# Altium footprint library varistors.PcbLib: 18 footprints (part 1 of 2)
Each footprint in its own frame and in the unit in brackets; x right, y up, seen from the top. Pads: shape width x height; smd on the part's side, far side on the other; paste and mask are expansions set on the pad; w line width, h text height; cw(c..) or ccw(c..) is an arc to the next point about the centre after c.
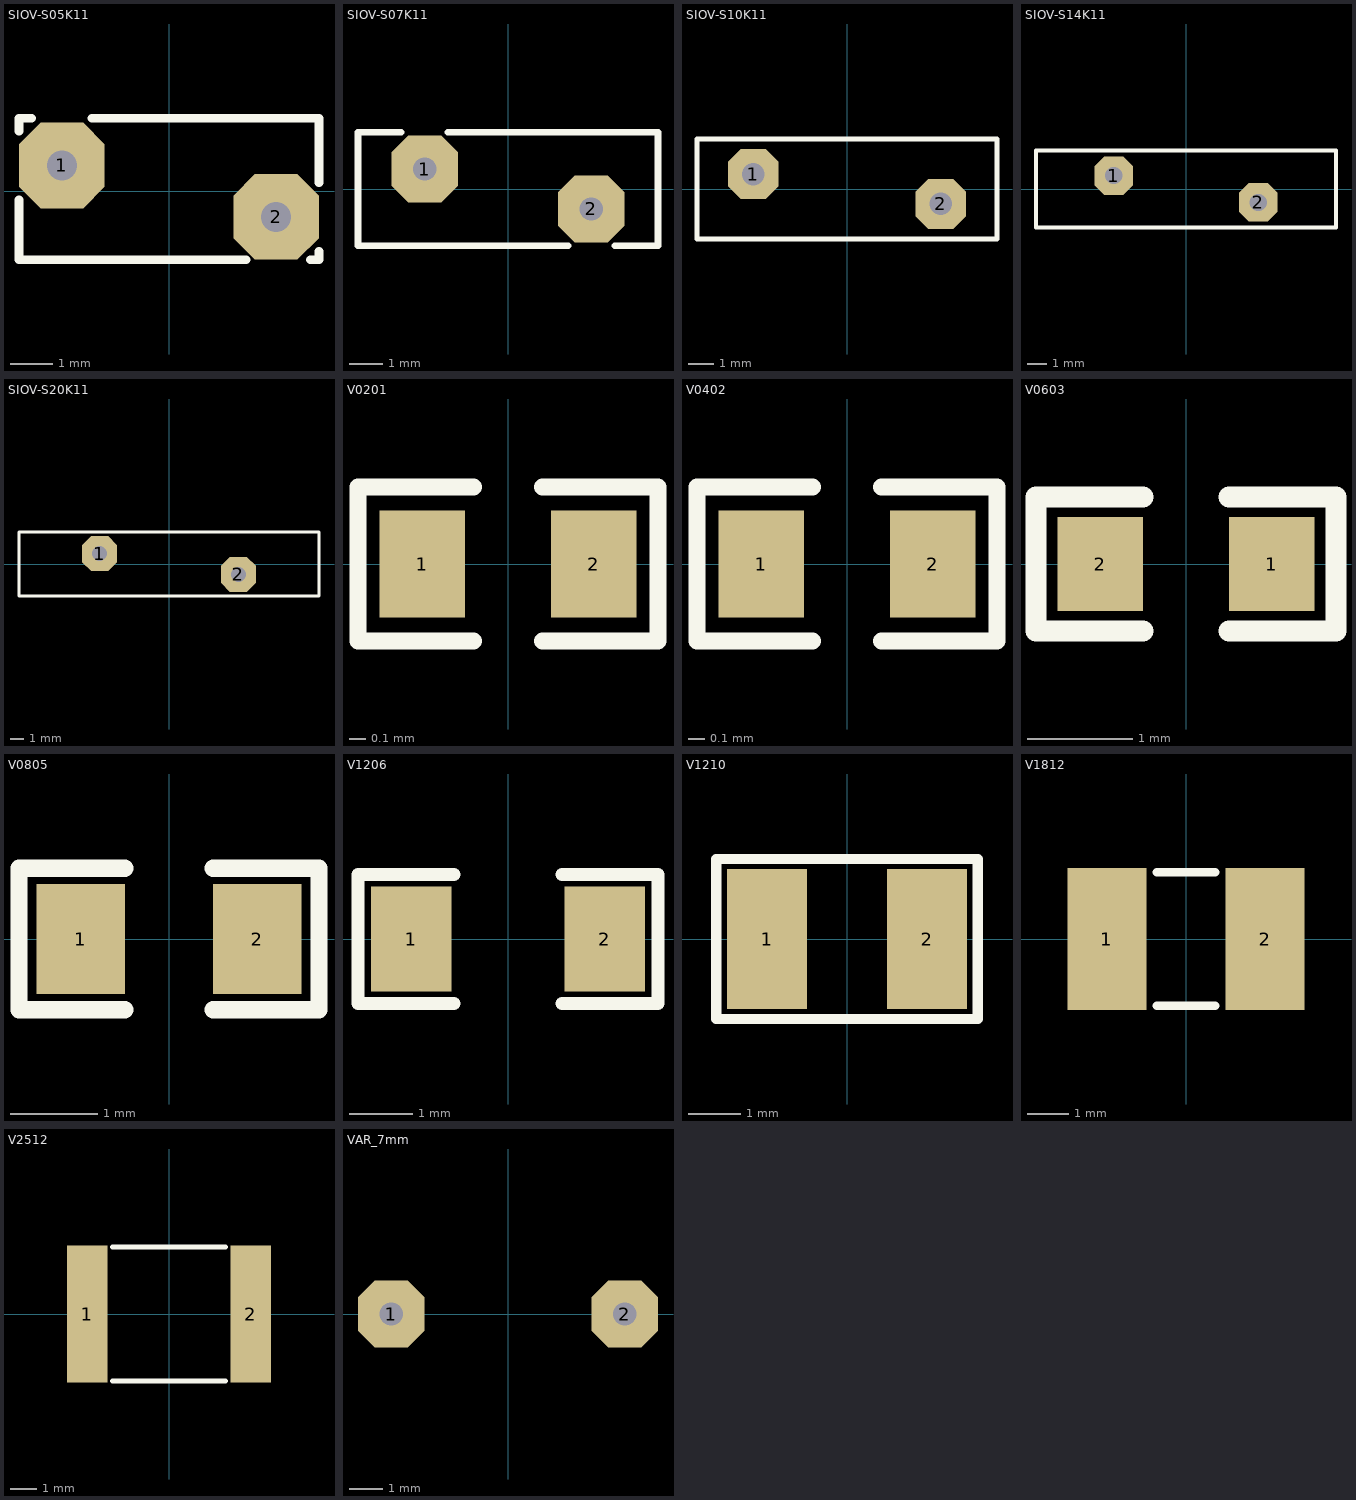
[diagram p0: the footprints below, top view; thin cyan lines are the x and y axes]

## SIOV-S05K11 [mm]
height 8.5
pads (2):
  oct 2x2 hole 0.7: 1(-2.5,0.6) 2(2.5,-0.6)
Top Overlay:
  lines w0.2: -3.5,-0.2 -3.5,-1.6 1.8,-1.6 ; -3.5,1.4 -3.5,1.7 -3.2,1.7 ; -1.8,1.7 3.5,1.7 3.5,0.2 ; 3.3,-1.6 3.5,-1.6 3.5,-1.4
3D body: height 8.5, standoff -2.5, extent -3.498,-1.65 3.496,1.65

## SIOV-S07K11 [mm]
height 11
pads (2):
  oct 2x2 hole 0.7: 1(-2.5,0.6) 2(2.5,-0.6)
Top Overlay:
  lines w0.2: -3.2,1.7 -3.5,1.7 -4.5,1.7 -4.5,-1.7 -3.5,-1.7 1.8,-1.7 ; -1.8,1.7 3.5,1.7 4.5,1.7 4.5,-1.7 3.5,-1.7 3.2,-1.7
3D body: height 9.5, standoff -3, extent -4.496,-1.7 4.496,1.7

## SIOV-S10K11 [mm]
height 14.5
pads (2):
  oct 2x2 hole 0.9: 1(-3.75,0.6) 2(3.75,-0.6)
Top Overlay:
  lines w0.2: -6,-2 -6,2 6,2 6,-2 -6,-2
3D body: height 13.5, standoff -2.5, extent -6,-2 6,2

## SIOV-S14K11 [mm]
height 18.5
pads (2):
  oct 2x2 hole 0.9: 1(-3.75,0.7) 2(3.75,-0.7)
Top Overlay:
  lines w0.2: -7.8,-2 7.8,-2 7.8,2 -7.7,2 -7.8,2 -7.8,-2
3D body: height 17.75, standoff -2, extent -7.748,-2 7.747,2

## SIOV-S20K11 [mm]
height 25.5
pads (2):
  oct 2.5x2.5 hole 1.1: 1(-5,0.75) 2(5,-0.75)
Top Overlay:
  lines w0.2: -10.8,-2.3 10.8,-2.3 10.8,2.3 -10.8,2.3 -10.8,-2.3
3D body: height 2, standoff -23.75, extent -10.748,-2.25 10.749,2.25

## V0201 [mil]
pads (2):
  rect 20x25 smd: 1(-20,0) 2(20,0)
Top Overlay:
  lines w3.94: -8,-18 -35,-18 -35,18 -8,18 ; 8,-18 35,-18 35,18 8,18
3D body: height 11.81, standoff 0, extent -11.8,-5.9 11.82,5.91

## V0402 [mil]
pads (2):
  rect 20x25 smd: 1(-20,0) 2(20,0)
Top Overlay:
  lines w3.94: -8,-18 -35,-18 -35,18 -8,18 ; 8,-18 35,-18 35,18 8,18
3D body: height 23.62, standoff 0, extent -19.68,-9.84 19.69,9.84

## V0603 [mil]
pads (2):
  rect 32x35 smd: 1(32,0) 2(-32,0)
Top Overlay:
  lines w7.87: -16,-25 -56,-25 -56,25 -16,25 ; 16,-25 56,-25 56,25 16,25
3D body: height 35.43, standoff 0, extent -31.49,-15.74 31.5,15.75

## V0805 [mil]
height 49.21
pads (2):
  rect 40x50 smd: 1(-40,0) 2(40,0)
Top Overlay:
  lines w7.87: -20,-32 -68,-32 -68,32 -20,32 ; 20,-32 68,-32 68,32 20,32
3D body: height 47.24, standoff 0, extent -39.36,-24.6 39.38,24.61

## V1206 [mil]
height 86.61
pads (2):
  rect 50x65 smd: 1(-60,0) 2(60,0)
Top Overlay:
  lines w7.87: -33.46,-40 -93,-40 -93,40 -33.46,40 ; 33.46,-40 92.91,-40 92.91,40 33.46,40
3D body: height 59.06, standoff 0, extent -62.98,-31.49 63,31.5

## V1210 [mil]
height 39.37
pads (2):
  rect 60x105 smd: 1(-60,0) 2(60,0)
Top Overlay:
  lines w7.87: -98,-60 98,-60 98,60 -98,60 -98,-60
3D body: height 59.06, standoff 0, extent -62.98,-49.2 63,49.22

## V1812 [mm] "1812 size SMD resistor"
height 1
pads (2):
  rect 1.9x3.4 smd: 1(-1.9,0) 2(1.9,0)
Top Overlay:
  lines w0.2: -0.7,-1.6 0.7,-1.6 ; -0.7,1.6 0.7,1.6
3D body: height 2, standoff 0, extent -2.25,-1.6 2.25,1.6

## V2512 [mil] "2512 size SMD resistor"
height 39.37
pads (2):
  rect 60x200.79 smd: 1(-120,0) 2(120,0)
Top Overlay:
  lines w7.87: -82.68,-98.43 82.68,-98.43 ; -82.68,98.43 82.68,98.43
3D body: height 98.43, standoff 0, extent -112.2,-98.42 112.21,98.43

## VAR_5mm [mm]
3D body: height 1.26, standoff -1.25, extent -4,-8.567 4,4

## VAR_7mm [mm]
pads (2):
  oct 2x2 hole 0.7: 1(-3.5,0) 2(3.5,0)
3D body: height 12, standoff -3, extent -11.361,-6.7 -2.5,-1.1

## VAR_10mm [mm]
3D body: height 12.75, standoff -6.25, extent -6.25,-2.8 6.25,2.8